# Altium footprint library IND-SMD.PcbLib: 1 footprints
Each footprint in its own frame and in the unit in brackets; x right, y up, seen from the top. Pads: shape width x height; smd on the part's side, far side on the other; paste and mask are expansions set on the pad; w line width, h text height; cw(c..) or ccw(c..) is an arc to the next point about the centre after c.
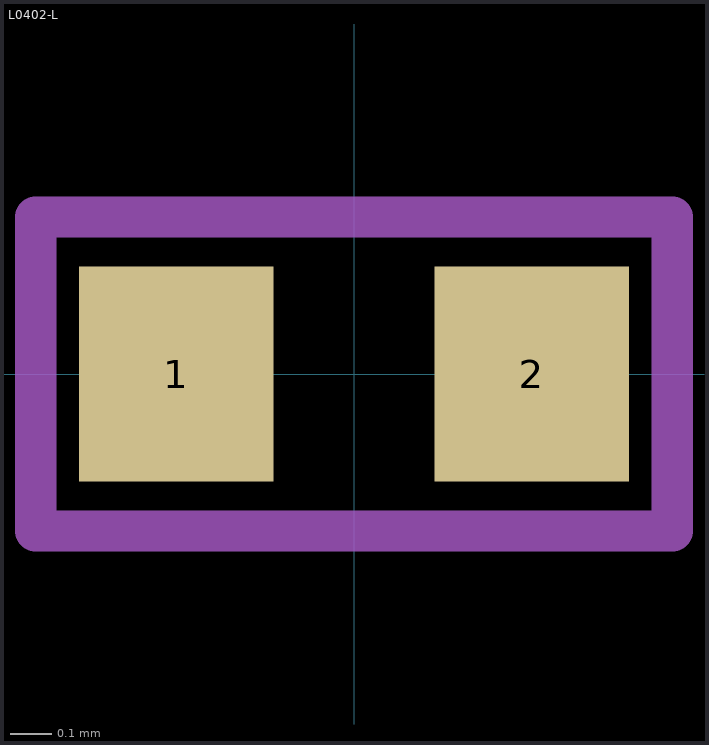
[diagram p0: the footprint, top view; thin cyan lines are the x and y axes]

## L0402-L [mm]
pads (2):
  rect 0.47x0.52 smd: 1(-0.43,0) 2(0.43,0)
Mechanical 15:
  lines w0.1: -0.77,-0.38 -0.77,0.38 0.77,0.38 0.77,-0.38 -0.77,-0.38
3D body "L_0402.stp": height 0.52, standoff 0.01, extent -0.508,-0.254 0.508,0.254